# EAGLE library part BNO080 (library ruark2)
Accelerometer, Gyroscope, Magnetometer, 9 Axis Sensor I²C, SPI, UART Output
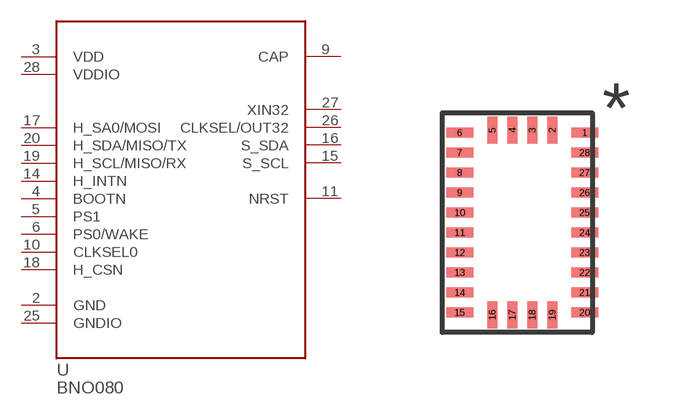
[diagram p115: symbol with the pads of BNO080; footprint BNO080]

Designator prefix U

## BNO080 (PARTNO: 1888-1000-1-ND)  [BNO080]
2  GND
3  VDD
4  BOOTN
5  PS1
6  PS0/WAKE
9  CAP
10  CLKSEL0
11  NRST
14  H_INTN
15  S_SCL
16  S_SDA
17  H_SA0/MOSI
18  H_CSN
19  H_SCL/MISO/RX
20  H_SDA/MISO/TX
25  GNDIO
26  CLKSEL/OUT32
27  XIN32
28  VDDIO

## Footprint BNO080 (pad centres in mm)
smd 0.675 x 0.25: 1 1.562,2.25; 6 -1.562,2.25; 7 -1.562,1.75; 8 -1.562,1.25; 9 -1.562,0.75; 10 -1.562,0.25; 11 -1.562,-0.25; 12 -1.562,-0.75; 13 -1.562,-1.25; 14 -1.562,-1.75; 15 -1.562,-2.25; 20 1.562,-2.25; 21 1.562,-1.75; 22 1.562,-1.25; 23 1.562,-0.75; 24 1.562,-0.25; 25 1.562,0.25; 26 1.562,0.75; 27 1.562,1.25; 28 1.562,1.75
smd 0.25 x 0.675: 2 0.75,2.312; 3 0.25,2.312; 4 -0.25,2.312; 5 -0.75,2.312; 16 -0.75,-2.312; 17 -0.25,-2.312; 18 0.25,-2.312; 19 0.75,-2.312